# Altium integrated library karman_Integrated_Library.IntLib: 101 symbols (part 3 of 3)
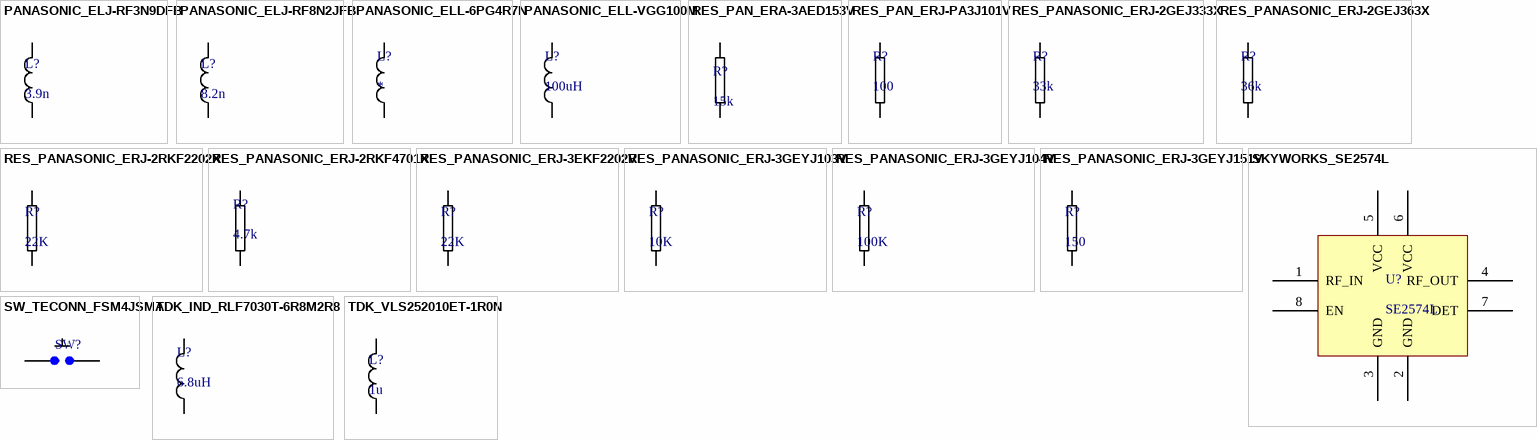
[diagram p5: symbols PANASONIC_ELJ-RF3N9DFB to TDK_VLS252010ET-1R0N]

## RES_PANASONIC_ERJ-3GEYJ151V
designator R?, comment 150
RES SMD 150 OHM 5% 1/10W 0603; Manufacturer: Panasonic Electronic Components; Manufacturer Part Number: ERJ-3GEYJ151V; Power (Watts): 0.1W, 1/10W; Temperature Coefficient: ±200ppm/°C; Supplier 1: Digi-Key; Supplier Part Number 1: P150GCT-ND; RoHS: RoHS Compliant; Category: Resistors; Stock 1: 236723; Pricing: 1=0.1, 50=0.0096, 100=0.0071, 250=0.00544, 500=0.00436, 1000=0.00321 (USD); Packaging: Cut Tape (CT); Resistance (Ohms): 150; Tolerance: ±5%; Composition: Thick Film; Features: Automotive AEC-Q200; Operating Temperature: -55°C ~ 155°C; Package / Case: 0603 (1608 Metric); Supplier Device Package: 0603; Size / Dimension: 0.063" L x 0.031" W (1.60mm x 0.80mm); Height: 0.022" (0.55mm); Number of Terminations: 2; ComponentLink1URL: http://industrial.panasonic.com/www-cgi/jvcr13pz.cgi?E+PZ+3+AOA0001+ERJ3GEYJ151V+7+WW; ComponentLink1Description: http://industrial.panasonic.com/www-cgi/jvcr13pz.cgi?E+PZ+3+AOA0001+ERJ3GEYJ151V+7+WW
footprint PANASONIC_ERJ3R (Chip Resistor, 0603)
pins: 1, 2

## SKYWORKS_SE2574L
designator U?, comment SE2574L
IC LAN PA 2.4GHZ 8QFN; Manufacturer: Skyworks Solutions Inc; Manufacturer Part Number: SE2574L-R; P1dB: 25dBm; Gain: 28dB; RF Type: 802.11b/g; Voltage - Supply: 2.7 V ~ 5 V; Current - Supply: 135mA; Supplier 1: Digi-Key; Supplier Part Number 1: 863-1447-1-ND; RoHS: RoHS Compliant; Category: RF/IF and RFID; Stock 1: 4461; Pricing: 1=0.56, 100=0.47, 500=0.38 (USD); Packaging: Cut Tape (CT); Frequency: 2.4GHz; Noise Figure: -; Test Frequency: 2.4GHz; Package / Case: 8-VFDFN Exposed Pad; Supplier Device Package: 8-QFN (2x2); ComponentLink1URL: http://www.skyworksinc.com/uploads/documents/202427A.pdf; ComponentLink1Description: http://www.skyworksinc.com/uploads/documents/202427A.pdf
footprint SKYWORKS_SE2574L (RF Transciver)
pins: 1 RF_IN, 2 GND, 3 GND, 4 RF_OUT, 5 VCC, 6 VCC, 7 DET, 8 EN

## SW_TECONN_FSM4JSMA
designator SW?  (value not drawn)
SWITCH TACTILE SPST-NO 0.05A 24V; Manufacturer: TE Connectivity Alcoswitch Switches; Manufacturer Part Number: FSM4JSMA; Switch Function: Off-Mom; Contact Rating @ Voltage: 0.05A @ 24VDC; Actuator Type: Standard; Actuator Height off PCB, from Pins: 5.00mm; Actuator Orientation: Top Actuated; Outline: 6.00mm x 6.00mm; Illumination: Non-Illuminated; Operating Force: 160gf; Actuator Material: Polyphenylene Sulfide (PPS); Switch Travel: 0.25mm; Mechanical Life: 100,000 Cycles; Supplier 1: Digi-Key; Supplier Part Number 1: 450-1129-ND; RoHS: RoHS Compliant; Category: Switches; Stock 1: 36538; Pricing: 1=0.2, 10=0.196, 25=0.19, 50=0.183, 100=0.173, 200=0.162, 500=0.155, 1000=0.119, 2000=0.096 (USD); Packaging: Bulk; Circuit: SPST-NO; Mounting Type: Surface Mount; Termination Style: Gull Wing; Illumination Voltage (Nominal): -; Illumination Type, Color: -; Ingress Protection: -; Features: -; Operating Temperature: -35°C ~ 85°C; ComponentLink1URL: http://www.te.com/commerce/DocumentDelivery/DDEController?Action=srchrtrv&DocNm=2-1437565-7&DocType=Customer+Drawing&DocLang=English; ComponentLink1Description: http://www.te.com/commerce/DocumentDelivery/DDEController?Action=srchrtrv&DocNm=2-1437565-7&DocType=Customer+Drawing&DocLang=English
footprint TECONN_FSM4JSMA (Tactile Switch, Surface Mount)
pins: 1, 2

## TDK_IND_RLF7030T-6R8M2R8
designator L?, comment 6.8uH
FIXED IND 6.8UH 2.8A 37.3 MOHM; Manufacturer: TDK Corporation; Manufacturer Part Number: RLF7030T-6R8M2R8; Type: Wirewound; Material - Core: Ferrite; Inductance: 6.8µH; Tolerance: ±20%; Current - Saturation: 3A; Shielding: Shielded; DC Resistance (DCR): 44.76 mOhm Max; Frequency - Test: 100kHz; Supplier 1: Digi-Key; RoHS: RoHS Compliant; Category: Inductors, Coils, Chokes; Stock 1: 8675; Pricing 1: 1=2.31, 10=2.153, 50=1.7528, 100=1.599, 500=1.353 (USD); Packaging: Cut Tape (CT); Current Rating: 2.8A; Q @ Freq: -; Frequency - Self Resonant: -; Operating Temperature: -40°C ~ 125°C; Mounting Type: Surface Mount; Package / Case: Nonstandard; Size / Dimension: 0.287" L x 0.268" W (7.30mm x 6.80mm); Height - Seated (Max): 0.126" (3.20mm); Supplier Device Package: -; ComponentLink1URL: http://product.tdk.com/inductor/ind/en/documents/inductor_commercial_power_rlf_en.pdf; ComponentLink1Description: http://product.tdk.com/inductor/ind/en/documents/inductor_commercial_power_rlf_en.pdf; Supplier Part Number 1: 445-2965-1-ND
pins: 1, 2

## TDK_VLS252010ET-1R0N
designator L?, comment 1u
FIXED IND 1UH 1.75A 84 MOHM SMD; Manufacturer: TDK Corporation; Manufacturer Part Number: VLS252010ET-1R0N; Type: Wirewound; Material - Core: Ferrite; Inductance: 1µH; Tolerance: ±30%; Shielding: Shielded; DC Resistance (DCR): 84 mOhm Max; Frequency - Test: 1MHz; Supplier 1: Digi-Key; Supplier Part Number 1: 445-6627-1-ND; RoHS: RoHS Compliant; Category: Inductors, Coils, Chokes; Stock 1: 31496; Pricing: 1=0.54, 10=0.48, 50=0.39, 100=0.36, 500=0.312, 1000=0.264 (USD); Packaging: Cut Tape (CT); Current Rating: 1.75A; Current - Saturation: 1.75A; Q @ Freq: -; Frequency - Self Resonant: -; Operating Temperature: -40°C ~ 105°C; Mounting Type: Surface Mount; Package / Case: 1008 (2520 Metric); Size / Dimension: 0.098" L x 0.079" W (2.50mm x 2.00mm); Height - Seated (Max): 0.039" (1.00mm); Supplier Device Package: 1008 (2520 Metric); ComponentLink1URL: http://product.tdk.com/inductor/ind/en/documents/inductor_commercial_power_vls_en.pdf; ComponentLink1Description: http://product.tdk.com/inductor/ind/en/documents/inductor_commercial_power_vls_en.pdf
footprint TDK_VLS252010E (Wireround, Inductor)
pins: 1, 2